# Altium schematic symbol library LCD.SchLib: 1 symbol
Pins are listed as number, name and electrical type; pins without a type are passive.

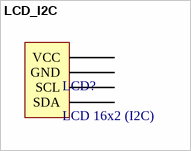
[diagram p0: symbol LCD_I2C]

## LCD_I2C
designator LCD?, comment LCD 16x2 (I2C)
pins: 1 VCC, 2 GND, 3 SCL, 4 SDA